# Altium footprint library CONTROLLER-2_BRD2.PcbLib: 38 footprints (part 3 of 3)
Each footprint in its own frame and in the unit in brackets; x right, y up, seen from the top. Pads: shape width x height; smd on the part's side, far side on the other; paste and mask are expansions set on the pad; w line width, h text height; cw(c..) or ccw(c..) is an arc to the next point about the centre after c.
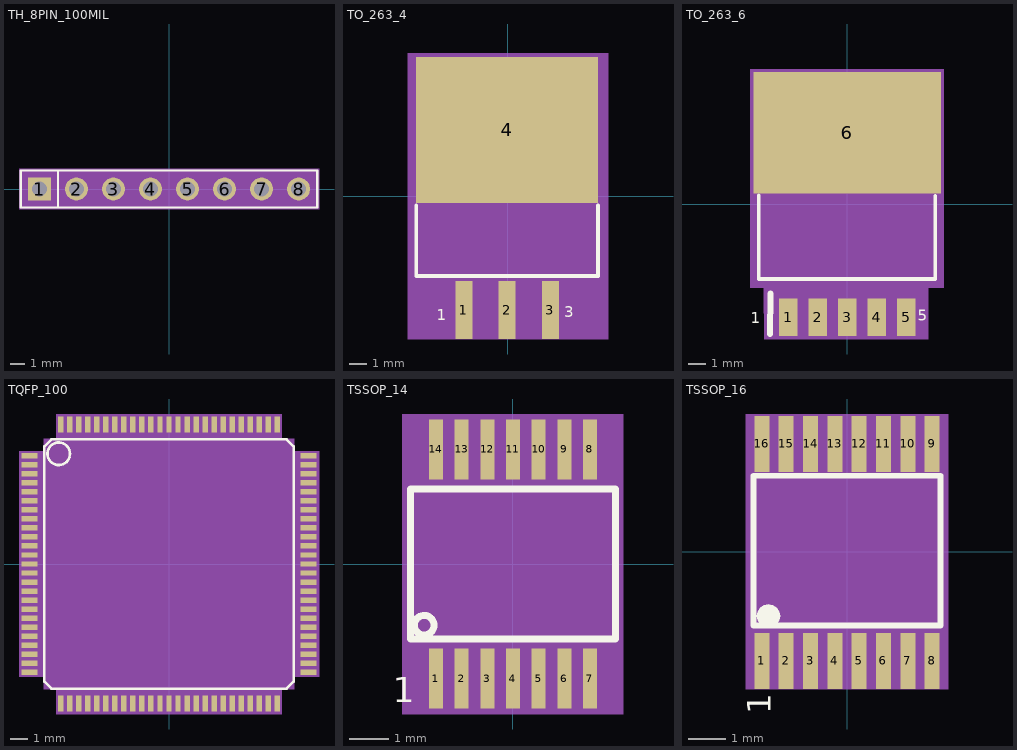
[diagram p2: the footprints below, top view; thin cyan lines are the x and y axes]

## TH_8PIN_100MIL [mil] "TH_8PIN_100MIL"
pads (8):
  rect 62x62 / inner round 62 / far side rect 62x62 hole 40: 1(-350,0)
  round 62 hole 40: 2(-250,0) 3(-150,0) 4(-50,0) 5(50,0) 6(150,0) 7(250,0) 8(350,0)
Top Overlay:
  lines w6: -300,-50 -300,50 ; -400,-50 400,-50 400,50 -400,50 -400,-50
  text ".Designator" at -255,-110 h25
Mechanical 7:
  region: -405,55 -405,-55 405,-55 405,55
Mechanical 15:
  text "7" at 234,0 h25
  text "5" at 34,0 h25
  text "8" at 334,0 h25
  text "2" at -266,0 h25
  text "3" at -166,0 h25
  text "6" at 134,0 h25
  text "1" at -366,0 h25
  text "4" at -66,0 h25
Mechanical 16:
  lines w1: -300,-50 -300,50 ; -400,-50 400,-50 400,50 -400,50 -400,-50
3D body: height 150, standoff 0, extent -405,-55 405,55

## TO_263_4 [mm] "TO_263_4"
pads (4):
  rect 1x3.4 smd: 1(-2.59,-6.7) 2(-0.05,-6.7) 3(2.49,-6.7)
  rect 10.7x8.6 smd: 4(-0.05,3.9)
Top Overlay:
  lines w0.22: -5.4,-0.55 -5.4,-4.7 5.3,-4.7 5.3,-0.55
  text "1" at -4.181,-7.308 h0.64
  text "3" at 3.319,-7.108 h0.64
Mechanical 7:
  region: -5.9,8.4 -5.9,-8.4 5.9,-8.4 5.9,8.4
Mechanical 15:
  text "1" at -2.844,-6.7 h0.64
  text "3" at 2.236,-6.7 h0.64
  text "2" at -0.304,-6.7 h0.64
  text "4" at -0.355,3.218 h0.64
Mechanical 16:
  lines w0.025: -5.4,-3.8 5.3,-3.8 5.3,7.5 -5.4,7.5 -5.4,-3.8
  lines w0.1: -5.385,3.45 -5.385,3.455
  text ".Designator" at -0.922,0.911 h0.64
  text "1" at -2.869,-5.823 h0.64
3D body: height 3.81, standoff 0, extent -5.9,-8.4 5.9,8.4

## TO_263_6 [mil] "TO_263_6"
pads (6):
  rect 42x85 smd: 1(-133.5,-256.41) 2(-66.5,-256.41) 3(0.5,-256.41) 4(67.5,-256.41) 5(134.5,-256.41)
  rect 425x275 smd: 6(0.5,161.91)
Top Overlay:
  lines w8: -200.5,20.5 -200.5,-169.5 199.5,-169.5 199.5,19.5 200.5,19.5
  lines w14: -174.5,-294.5 -173.5,-202.4
  text ".Designator" at -219.5,315.5 h25
  text "1" at -218.5,-269.5 h25
  text "5" at 160.5,-264.5 h25
Mechanical 7:
  region: -187.76,-305.5 -188.65,-189.11 -219.5,-189.11 -219.5,305.5 219.5,305.5 219.5,-189.11 184.52,-189.11 184.08,-305.5
Mechanical 15:
  text "2" at -76.5,-256.41 h25
  text "3" at -9.5,-256.41 h25
  text "6" at -9.5,161.91 h25
  text "1" at -143.5,-256.41 h25
  text "5" at 124.5,-256.41 h25
  text "4" at 57.5,-256.41 h25
Mechanical 16:
  circle w6: c-139.5,-143.5 r19.6
  lines w1: -199.5,-169.5 200.5,-169.5 200.5,230.5 -199.5,230.5 -199.5,-169.5
  lines w14: -174.5,-294.5 -173.5,-202.4
3D body: height 150, standoff 0, extent -219.5,-305.5 219.5,305.5

## TQFP_100 [mil] "TQFP_100"
pads (100):
  rect 36x12 smd: 1(-309,240) 2(-309,220) 3(-309,200) 4(-309,180) 5(-309,160) 6(-309,140) 7(-309,120) 8(-309,100) 9(-309,80) 10(-309,60) 11(-309,40) 12(-309,20) 13(-309,0) 14(-309,-20) 15(-309,-40) 16(-309,-60) 17(-309,-80) 18(-309,-100) 19(-309,-120) 20(-309,-140) 21(-309,-160) 22(-309,-180) 23(-309,-200) 24(-309,-220) 25(-309,-240) 51(309,-240) 52(309,-220) 53(309,-200) 54(309,-180) 55(309,-160) 56(309,-140) 57(309,-120) 58(309,-100) 59(309,-80) 60(309,-60) 61(309,-40) 62(309,-20) 63(309,0) 64(309,20) 65(309,40) 66(309,60) 67(309,80) 68(309,100) 69(309,120) 70(309,140) 71(309,160) 72(309,180) 73(309,200) 74(309,220) 75(309,240)
  rect 12x36 smd: 26(-240,-309) 27(-220,-309) 28(-200,-309) 29(-180,-309) 30(-160,-309) 31(-140,-309) 32(-120,-309) 33(-100,-309) 34(-80,-309) 35(-60,-309) 36(-40,-309) 37(-20,-309) 38(0,-309) 39(20,-309) 40(40,-309) 41(60,-309) 42(80,-309) 43(100,-309) 44(120,-309) 45(140,-309) 46(160,-309) 47(180,-309) 48(200,-309) 49(220,-309) 50(240,-309) 76(240,309) 77(220,309) 78(200,309) 79(180,309) 80(160,309) 81(140,309) 82(120,309) 83(100,309) 84(80,309) 85(60,309) 86(40,309) 87(20,309) 88(0,309) 89(-20,309) 90(-40,309) 91(-60,309) 92(-80,309) 93(-100,309) 94(-120,309) 95(-140,309) 96(-160,309) 97(-180,309) 98(-200,309) 99(-220,309) 100(-240,309)
Top Overlay:
  circle w6: c-244,244 r25
  lines w6: -276,-260 -276,260 -260,276 260,276 276,260 276,-260 260,-276 -260,-276 -276,-260
Mechanical 7:
  region: -250,332 250,332 250,277 277,277 277,250 332,250 332,-250 277,-250 277,-277 250,-277 250,-332 -250,-332 -250,-277 -277,-277 -277,-250 -332,-250 -332,250 -277,250 -277,277 -250,277
Mechanical 15:
  text "52" at 309,-220 h25
  text "95" at -168.8,309 h25
  text "93" at -128.8,309 h25
  text "99" at -248.8,309 h25
  text "91" at -88.8,309 h25
  text "92" at -108.8,309 h25
  text "83" at 71.2,309 h25
  text "82" at 91.2,309 h25
  text "5" at -323.4,160 h25
  text "81" at 111.2,309 h25
  text "78" at 171.2,309 h25
  text "77" at 191.2,309 h25
  text "76" at 211.2,309 h25
  text "88" at -28.8,309 h25
  text "87" at -8.8,309 h25
  text "66" at 309,60 h25
  text "67" at 309,80 h25
  text "18" at -337.8,-100 h25
  text "94" at -148.8,309 h25
  text "41" at 60,-309 h25
  text "24" at -337.8,-220 h25
  text "7" at -323.4,120 h25
  text "34" at -80,-309 h25
  text "21" at -337.8,-160 h25
  text "48" at 200,-309 h25
  text "19" at -337.8,-120 h25
  text "51" at 309,-240 h25
  text "80" at 131.2,309 h25
  text "40" at 40,-309 h25
  text "25" at -337.8,-240 h25
  text "59" at 309,-80 h25
  text "8" at -323.4,100 h25
  text "71" at 309,160 h25
  text "35" at -60,-309 h25
  text "20" at -337.8,-140 h25
  text "6" at -323.4,140 h25
  text "84" at 51.2,309 h25
  text "22" at -337.8,-180 h25
  text "47" at 180,-309 h25
  text "28" at -200,-309 h25
  text "44" at 120,-309 h25
  text "42" at 80,-309 h25
  text "9" at -323.4,80 h25
  text "79" at 151.2,309 h25
  text "23" at -337.8,-200 h25
  text "32" at -120,-309 h25
  text "90" at -68.8,309 h25
  text "33" at -100,-309 h25
  text "39" at 20,-309 h25
  text "72" at 309,180 h25
  text "29" at -180,-309 h25
  text "43" at 100,-309 h25
  text "100" at -283.2,309 h25
  text "3" at -323.4,200 h25
  text "4" at -323.4,180 h25
  text "97" at -208.8,309 h25
  text "96" at -188.8,309 h25
  text "98" at -228.8,309 h25
  text "11" at -337.8,40 h25
  text "12" at -337.8,20 h25
  text "14" at -337.8,-20 h25
  text "10" at -337.8,60 h25
  text "70" at 309,140 h25
  text "69" at 309,120 h25
  text "57" at 309,-120 h25
  text "56" at 309,-140 h25
  text "50" at 240,-309 h25
  text "49" at 220,-309 h25
  text "54" at 309,-180 h25
  text "64" at 309,20 h25
  text "26" at -240,-309 h25
  text "73" at 309,200 h25
  text "68" at 309,100 h25
  text "38" at 0,-309 h25
  text "85" at 31.2,309 h25
  text "27" at -220,-309 h25
  text "61" at 309,-40 h25
  text "13" at -337.8,0 h25
  text "17" at -337.8,-80 h25
  text "74" at 309,220 h25
  text "63" at 309,0 h25
  text "60" at 309,-60 h25
  text "53" at 309,-200 h25
  text "15" at -337.8,-40 h25
  text "36" at -40,-309 h25
  text "31" at -140,-309 h25
  text "45" at 140,-309 h25
  text "65" at 309,40 h25
  text "75" at 309,240 h25
  text "30" at -160,-309 h25
  text "16" at -337.8,-60 h25
  text "55" at 309,-160 h25
  text "37" at -20,-309 h25
  text "46" at 160,-309 h25
  text "2" at -323.4,220 h25
  text "86" at 11.2,309 h25
  text "62" at 309,-20 h25
  text "1" at -323.4,240 h25
  text "89" at -48.8,309 h25
  text "58" at 309,-100 h25
Mechanical 16:
  circle w1: c-244,244 r25
  lines w1: -276,-260 -260,-276 260,-276 276,-260 276,260 260,276 -260,276 -276,260 -276,-260
  text ".Designator" at -33,-23 h25
3D body: height 150, standoff 0, extent -332,-332 332,332

## TSSOP_14 [mil] "TSSOP_14"
pads (14):
  rect 14x60 smd: 1(-76.8,-114.2) 2(-51.2,-114.2) 3(-25.6,-114.2) 4(0,-114.2) 5(25.6,-114.2) 6(51.2,-114.2) 7(76.8,-114.2) 8(76.8,114.2) 9(51.2,114.2) 10(25.6,114.2) 11(0,114.2) 12(-25.6,114.2) 13(-51.2,114.2) 14(-76.8,114.2)
Top Overlay:
  circle w7: c-88.6,-61 r9.8
  lines w7: -102.4,-74.8 102.4,-74.8 102.4,74.8 -102.4,74.8 -102.4,-74.8
  text "1" at -120.08,-137.79 h25
Mechanical 7:
  region: 106.3,-149.6 -110.2,-149.6 -110.2,149.6 106.3,149.6 110.2,149.6 110.2,-145.7 110.2,-149.6
Mechanical 15:
  text "2" at -63.6,-114.2 h25
  text "8" at 64.4,114.2 h25
  text "7" at 64.4,-114.2 h25
  text "14" at -101.6,114.2 h25
  text "1" at -89.2,-114.2 h25
  text "9" at 38.8,114.2 h25
  text "13" at -76,114.2 h25
  text "5" at 13.2,-114.2 h25
  text "10" at 0.8,114.2 h25
  text "3" at -38,-114.2 h25
  text "6" at 38.8,-114.2 h25
  text "12" at -50.4,114.2 h25
  text "11" at -24.8,114.2 h25
  text "4" at -12.4,-114.2 h25
Mechanical 16:
  circle w2: c-88.6,-61 r10.1
  lines w2: -102.4,-74.8 102.4,-74.8 102.4,74.8 -102.4,74.8 -102.4,-74.8
  text ".Designator" at -33.47,-17.72 h25
3D body: height 150, standoff 0, extent -110.2,-149.6 110.2,149.6

## TSSOP_16 [mm] "TSSOP_16"
pads (16):
  rect 0.4x1.5 smd: 1(-2.275,-2.925) 2(-1.625,-2.925) 3(-0.975,-2.925) 4(-0.325,-2.925) 5(0.325,-2.925) 6(0.975,-2.925) 7(1.625,-2.925) 8(2.275,-2.925) 9(2.275,2.875) 10(1.625,2.875) 11(0.975,2.875) 12(0.325,2.875) 13(-0.325,2.875) 14(-0.975,2.875) 15(-1.625,2.875) 16(-2.275,2.875)
Top Overlay:
  dashed: -2.1,-1.415 -2.219,-1.439 -2.319,-1.506 -2.387,-1.607 -2.41,-1.725 -2.387,-1.844 -2.364,-1.878 -2.319,-1.945 -2.219,-2.012 -2.1,-2.036 -1.981,-2.012 -1.881,-1.945 -1.836,-1.878 -1.813,-1.844 -1.79,-1.725 -1.813,-1.607 -1.881,-1.506 -1.981,-1.439
  lines w0.152: -2.5,-1.975 2.5,-1.975 2.5,2.025 -2.5,2.025 -2.5,-1.975
  text "1" at -2.032,-4.343 h0.64
Mechanical 7:
  region: -2.7,-3.675 2.7,-3.675 2.7,3.675 -2.7,3.675
Mechanical 15:
  text "12" at 0.325,1.859 h0.64
  text "13" at -0.325,1.859 h0.64
  text "10" at 1.625,1.859 h0.64
  text "14" at -0.975,1.859 h0.64
  text "8" at 2.275,-3.433 h0.64
  text "11" at 0.975,1.859 h0.64
  text "1" at -2.275,-3.179 h0.64
  text "7" at 1.625,-3.433 h0.64
  text "2" at -1.625,-3.433 h0.64
  text "4" at -0.325,-3.433 h0.64
  text "9" at 2.275,2.367 h0.64
  text "6" at 0.975,-3.433 h0.64
  text "5" at 0.325,-3.433 h0.64
  text "3" at -0.975,-3.433 h0.64
  text "15" at -1.625,1.859 h0.64
  text "16" at -2.275,1.859 h0.64
Mechanical 16:
  dashed: -2.1,-1.428 -2.214,-1.451 -2.31,-1.515 -2.375,-1.612 -2.397,-1.725 -2.375,-1.839 -2.353,-1.871 -2.31,-1.936 -2.214,-2 -2.1,-2.023 -1.986,-2 -1.89,-1.936 -1.847,-1.871 -1.825,-1.839 -1.803,-1.725 -1.825,-1.612 -1.89,-1.515 -1.986,-1.451
  lines w0.025: -2.5,-2.225 2.5,-2.225 2.5,2.175 -2.5,2.175 -2.5,-2.225
  text ".Designator" at 1.422,0.61 h0.64
3D body: height 3.81, standoff 0, extent -2.7,-3.675 2.7,3.675